# Altium footprint library 7490100111.PcbLib: 1 footprints
Each footprint in its own frame and in the unit in brackets; x right, y up, seen from the top. Pads: shape width x height; smd on the part's side, far side on the other; paste and mask are expansions set on the pad; w line width, h text height; cw(c..) or ccw(c..) is an arc to the next point about the centre after c.
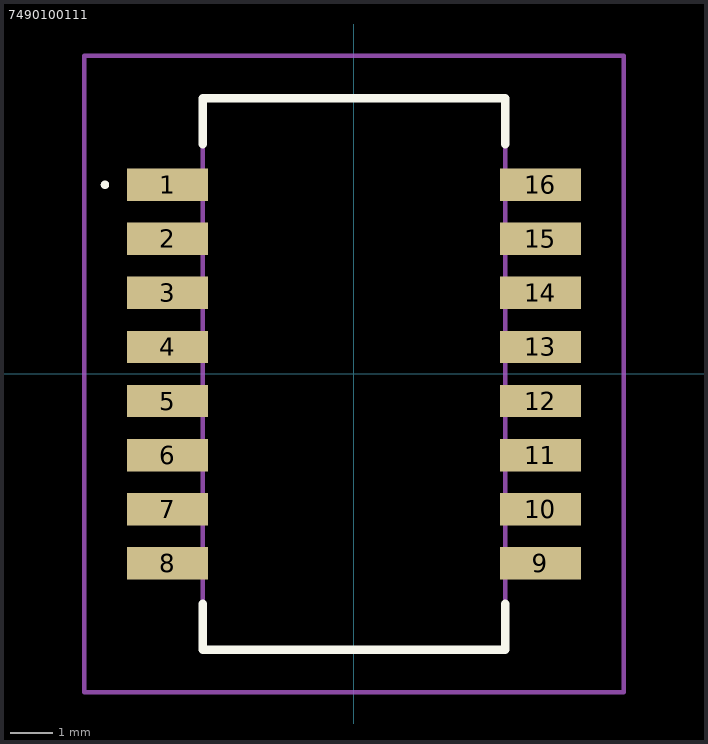
[diagram p0: the footprint, top view; thin cyan lines are the x and y axes]

## 7490100111 [mm]
pads (16):
  rect 1.91x0.76 smd: 1(-4.38,4.445) 2(-4.38,3.175) 3(-4.38,1.905) 4(-4.38,0.635) 5(-4.38,-0.635) 6(-4.38,-1.905) 7(-4.38,-3.175) 8(-4.38,-4.445) 9(4.38,-4.445) 10(4.38,-3.175) 11(4.38,-1.905) 12(4.38,-0.635) 13(4.38,0.635) 14(4.38,1.905) 15(4.38,3.175) 16(4.38,4.445)
Top Overlay:
  lines w0.1: -5.9,4.445 -5.9,4.445 ; -5.9,4.445 ccw(c-5.85,4.445) -5.8,4.445 ; -5.9,4.445 cw(c-5.85,4.445) -5.8,4.445 ; -5.8,4.445 -5.8,4.445
  lines w0.2: -3.555,-5.4 -3.555,-6.475 3.555,-6.475 3.555,-5.4 ; -3.555,5.4 -3.555,6.475 3.555,6.475 3.555,5.4
Mechanical 15:
  lines w0.1: -3.555,-6.475 3.555,-6.475 3.555,6.475 -3.555,6.475 -3.555,-6.475
Mechanical 20:
  lines w0.1: -6.335,-7.475 6.335,-7.475 6.335,7.475 -6.335,7.475 -6.335,-7.475